# Altium schematic symbol library kmilo17pet-LT_PMIC_LT.SchLib: 2252 symbols (part 51 of 124)
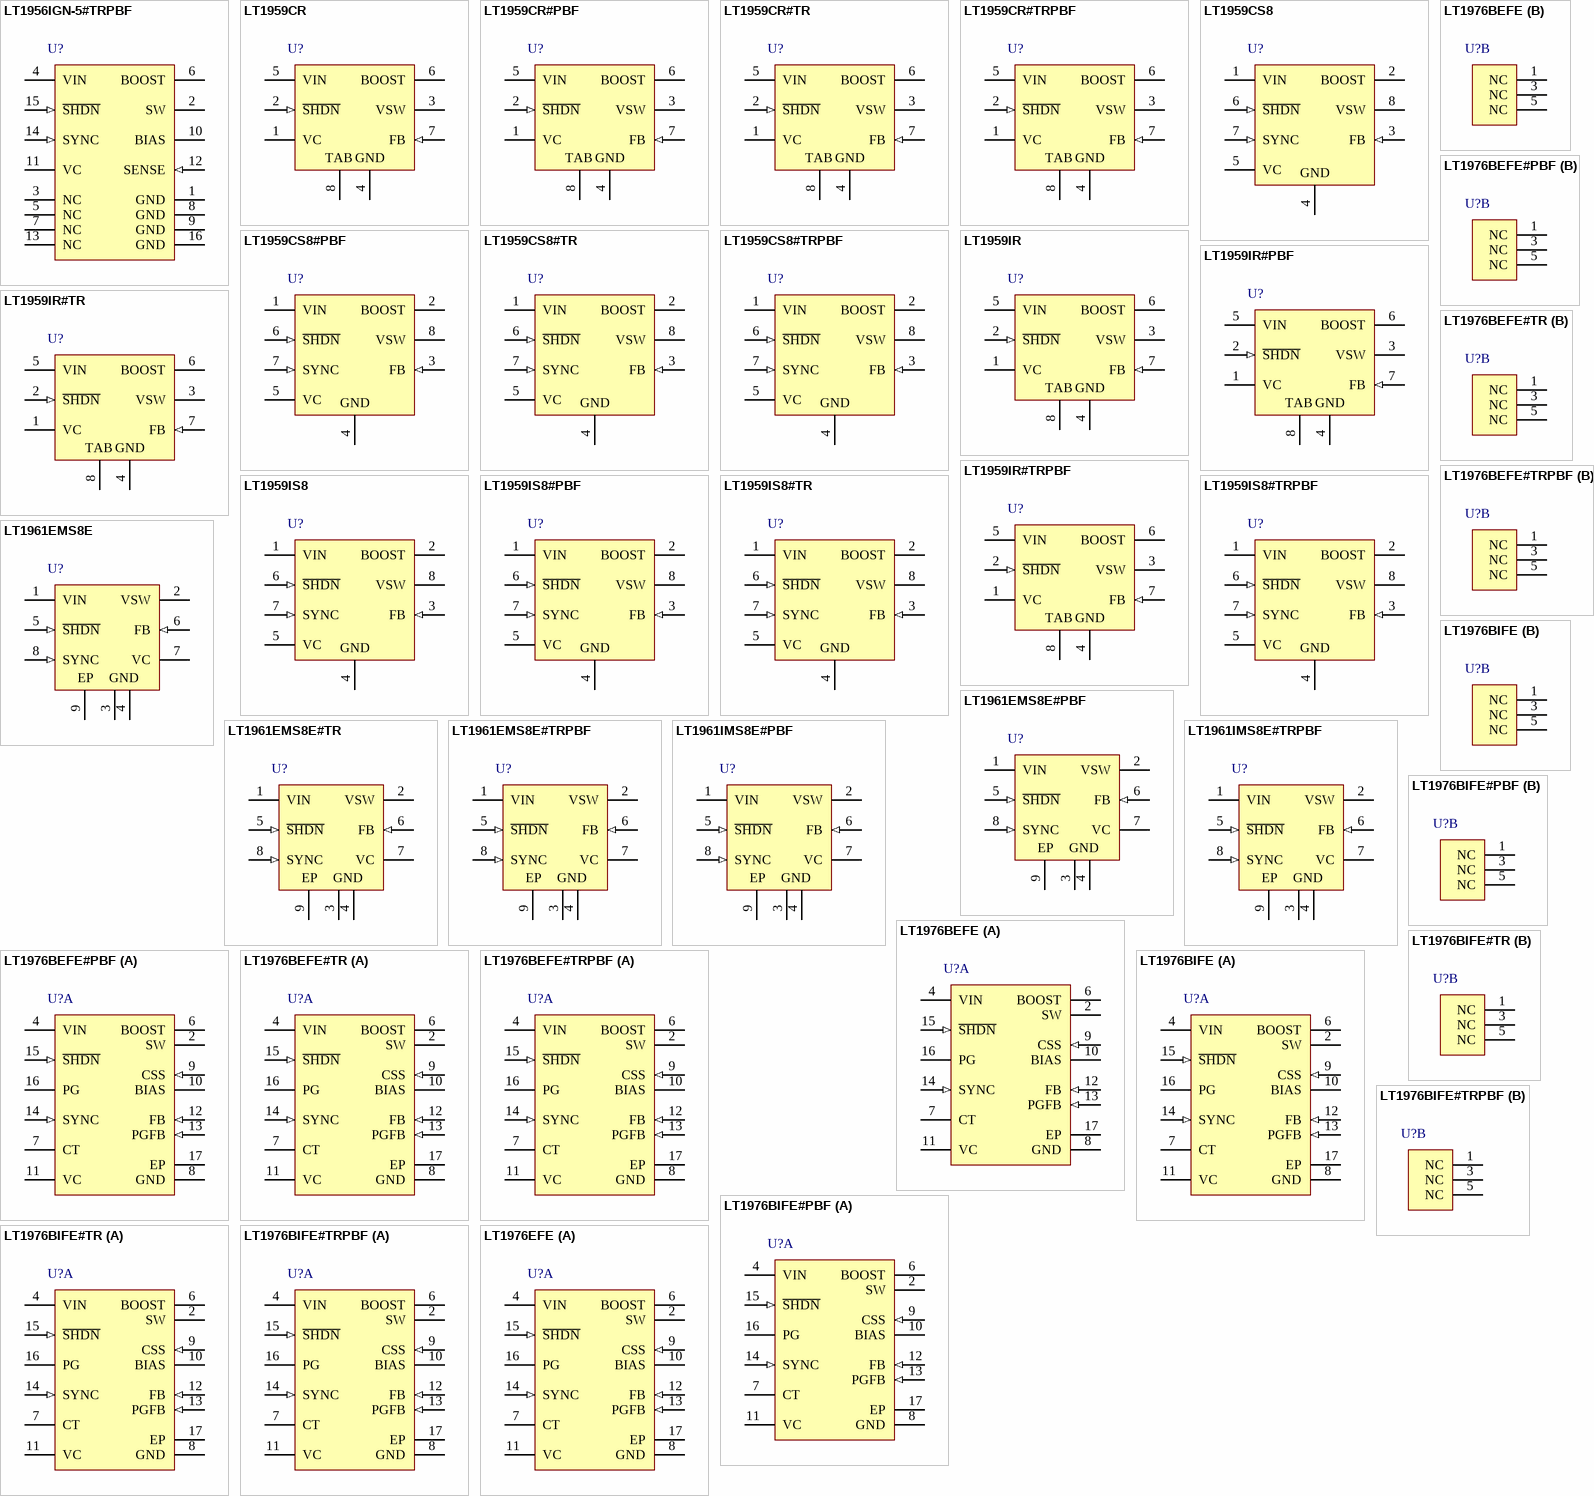
[diagram p121: symbols LT1956IGN-5#TRPBF to LT1976EFE]

## LT1976BIFE#PBF
designator U?
High Voltage 1.5 A, 200 kHz Step-Down Switching Regulator with 100 uA Quiescent Current, 16-pin SOP (FE-16-EPV-BC), -40 to 125 degC, Pb-Free; Manufacturer: Linear Technology; PartNumber: LT1976BIFE#PBF; Number of Outputs: 1; PackageReference: FE-16; PackageDescription: 16-Pin Plastic TSSOP, Body 5 x 4.4 mm, Pitch 0.65 mm; Supplier 1: Digi-Key; Supplier Part Number 1: LT1976BIFE#PBF-ND; RoHS: TRUE
footprint LT-FE-16-EPV-BC_N (SOP, 16-Leads, Body 5.1x4.5mm, Pitch 0.65mm, Thermal Pad 3.58x2.94mm, IPC Medium Density)
footprint LT-FE-16-EPV-BC_L (SOP, 16-Leads, Body 5.1x4.5mm, Pitch 0.65mm, Thermal Pad 3.58x2.94mm, IPC High Density)
footprint LT-FE-16-EPV-BC_M (SOP, 16-Leads, Body 5.1x4.5mm, Pitch 0.65mm, Thermal Pad 3.58x2.94mm, IPC Low Density)
part A pins: 2 SW (power) "The SW pin is the emitter of the on-chip power NPN switch. This pin is driven up to the input pin voltage during switch on time. Inductor current drives the SW pin negative during switch off time. Negative voltage is clamped (See Datasheet)", 4 VIN (power) "This is the collector of the on-chip power NPN switch. VIN powers the internal control circuitry when a voltage on the BIAS pin is not present. High di/dt edges occur on this pin during switch turn on and off. Keep the path (See Datasheet)", 6 BOOST "The BOOST pin is used to provide a drive voltage, higher than the input voltage, to the internal bipolar NPN power switch. Without this added voltage, the typical switch voltage loss would be about 1.5V. The additional BOOST (See Datasheet)", 7 CT "A capacitor on the CT pin determines the amount of delay time between the PGFB pin exceeding its threshold (VPGFB) and the PG pin set to a high impedance state. When the PGFB pin rises above VPGFB, current is sourced from (See Datasheet)", 8 GND (power) "The GND pin connection acts as the reference for the regulated output, so load regulation will suffer if the “ground?end of the load is not at the same voltage as the GND pin of the IC. This condition will occur w(See Datasheet)", 9 CSS (in) "A capacitor from the CSS pin to the regulated output voltage determines the output voltage ramp rate during start-up. When the current through the CSS capacitor exceeds the CSS threshold (ICSS), the voltage ramp of the (See Datasheet)", 10 BIAS (power) "The BIAS pin is used to improve efficiency when operating at higher input voltages and light load current. Connecting this pin to the regulated output voltage forces most of the internal circuitry to draw its operating (See Datasheet)", 11 VC "The VC pin is the output of the error amplifier and the input of the peak switch current comparator. It is normally used for frequency compensation, but can also serve as a current clamp or control loop override. VC sits at (See Datasheet)", 12 FB (in) "The feedback pin is used to determine the output voltage using an external voltage divider from the output that generates 1.25V at the FB pin . When the FB pin drops below 0.9V, switching frequency is reduced, the SYNC (See Datasheet)", 13 PGFB (in) "The PGFB pin is the positive input to a comparator whose negative input is set at VPGFB. When PGFB is taken above VPGFB, current (ICSS) is sourced into the CT pin starting the PG delay period. When the voltage on the PGFB (See Datasheet)", 14 SYNC (in) "The SYNC pin is used to synchronize the internal oscillator to an external signal. It is directly logic compatible and can be driven with any signal between 30% and 70% duty cycle. The synchronizing range is equal to maximum (See Datasheet)", 15 ~{SHDN} (in) "The S\H\D\N\ pin is used to turn off the regulator and to reduce input current to less than 1uA. The S\H\D\N\ pin requires a voltage above 1.3V with a typical source current of 5uA to take the IC out of the shutdown state.", 16 PG (hiz) "The PG pin is functional only when the S\H\D\N\ pin is above its threshold, and is active low when the internal clamp on the CT pin is below its clamp level and high impedance when the clamp is active. The PG pin has a (See Datasheet)", 17 EP (power) "The GND pin connection acts as the reference for the regulated output, so load regulation will suffer if the “ground?end of the load is not at the same voltage as the GND pin of the IC. This condition will occur w(See Datasheet)"
part B pins: 1 NC "No Connection.", 3 NC "No Connection.", 5 NC "No Connection."

## LT1976BIFE#TR
designator U?
High Voltage 1.5 A, 200 kHz Step-Down Switching Regulator with 100 uA Quiescent Current, 16-pin SOP (FE-16-EPV-BC), -40 to 125 degC, Tape and Reel; Manufacturer: Linear Technology; PartNumber: LT1976BIFE#TR; Number of Outputs: 1; PackageReference: FE-16; PackageDescription: 16-Pin Plastic TSSOP, Body 5 x 4.4 mm, Pitch 0.65 mm; RoHS: FALSE
footprint LT-FE-16-EPV-BC_N (SOP, 16-Leads, Body 5.1x4.5mm, Pitch 0.65mm, Thermal Pad 3.58x2.94mm, IPC Medium Density)
footprint LT-FE-16-EPV-BC_L (SOP, 16-Leads, Body 5.1x4.5mm, Pitch 0.65mm, Thermal Pad 3.58x2.94mm, IPC High Density)
footprint LT-FE-16-EPV-BC_M (SOP, 16-Leads, Body 5.1x4.5mm, Pitch 0.65mm, Thermal Pad 3.58x2.94mm, IPC Low Density)
part A pins: 2 SW (power) "The SW pin is the emitter of the on-chip power NPN switch. This pin is driven up to the input pin voltage during switch on time. Inductor current drives the SW pin negative during switch off time. Negative voltage is clamped (See Datasheet)", 4 VIN (power) "This is the collector of the on-chip power NPN switch. VIN powers the internal control circuitry when a voltage on the BIAS pin is not present. High di/dt edges occur on this pin during switch turn on and off. Keep the path (See Datasheet)", 6 BOOST "The BOOST pin is used to provide a drive voltage, higher than the input voltage, to the internal bipolar NPN power switch. Without this added voltage, the typical switch voltage loss would be about 1.5V. The additional BOOST (See Datasheet)", 7 CT "A capacitor on the CT pin determines the amount of delay time between the PGFB pin exceeding its threshold (VPGFB) and the PG pin set to a high impedance state. When the PGFB pin rises above VPGFB, current is sourced from (See Datasheet)", 8 GND (power) "The GND pin connection acts as the reference for the regulated output, so load regulation will suffer if the “ground?end of the load is not at the same voltage as the GND pin of the IC. This condition will occur w(See Datasheet)", 9 CSS (in) "A capacitor from the CSS pin to the regulated output voltage determines the output voltage ramp rate during start-up. When the current through the CSS capacitor exceeds the CSS threshold (ICSS), the voltage ramp of the (See Datasheet)", 10 BIAS (power) "The BIAS pin is used to improve efficiency when operating at higher input voltages and light load current. Connecting this pin to the regulated output voltage forces most of the internal circuitry to draw its operating (See Datasheet)", 11 VC "The VC pin is the output of the error amplifier and the input of the peak switch current comparator. It is normally used for frequency compensation, but can also serve as a current clamp or control loop override. VC sits at (See Datasheet)", 12 FB (in) "The feedback pin is used to determine the output voltage using an external voltage divider from the output that generates 1.25V at the FB pin . When the FB pin drops below 0.9V, switching frequency is reduced, the SYNC (See Datasheet)", 13 PGFB (in) "The PGFB pin is the positive input to a comparator whose negative input is set at VPGFB. When PGFB is taken above VPGFB, current (ICSS) is sourced into the CT pin starting the PG delay period. When the voltage on the PGFB (See Datasheet)", 14 SYNC (in) "The SYNC pin is used to synchronize the internal oscillator to an external signal. It is directly logic compatible and can be driven with any signal between 30% and 70% duty cycle. The synchronizing range is equal to maximum (See Datasheet)", 15 ~{SHDN} (in) "The S\H\D\N\ pin is used to turn off the regulator and to reduce input current to less than 1uA. The S\H\D\N\ pin requires a voltage above 1.3V with a typical source current of 5uA to take the IC out of the shutdown state.", 16 PG (hiz) "The PG pin is functional only when the S\H\D\N\ pin is above its threshold, and is active low when the internal clamp on the CT pin is below its clamp level and high impedance when the clamp is active. The PG pin has a (See Datasheet)", 17 EP (power) "The GND pin connection acts as the reference for the regulated output, so load regulation will suffer if the “ground?end of the load is not at the same voltage as the GND pin of the IC. This condition will occur w(See Datasheet)"
part B pins: 1 NC "No Connection.", 3 NC "No Connection.", 5 NC "No Connection."

## LT1976BIFE#TRPBF
designator U?
High Voltage 1.5 A, 200 kHz Step-Down Switching Regulator with 100 uA Quiescent Current, 16-pin SOP (FE-16-EPV-BC), -40 to 125 degC, Pb-Free, Tape and Reel; Manufacturer: Linear Technology; PartNumber: LT1976BIFE#TRPBF; Number of Outputs: 1; PackageReference: FE-16; PackageDescription: 16-Pin Plastic TSSOP, Body 5 x 4.4 mm, Pitch 0.65 mm; Supplier 1: Digi-Key; Supplier Part Number 1: LT1976BIFE#TRPBF-ND; RoHS: TRUE
footprint LT-FE-16-EPV-BC_N (SOP, 16-Leads, Body 5.1x4.5mm, Pitch 0.65mm, Thermal Pad 3.58x2.94mm, IPC Medium Density)
footprint LT-FE-16-EPV-BC_L (SOP, 16-Leads, Body 5.1x4.5mm, Pitch 0.65mm, Thermal Pad 3.58x2.94mm, IPC High Density)
footprint LT-FE-16-EPV-BC_M (SOP, 16-Leads, Body 5.1x4.5mm, Pitch 0.65mm, Thermal Pad 3.58x2.94mm, IPC Low Density)
part A pins: 2 SW (power) "The SW pin is the emitter of the on-chip power NPN switch. This pin is driven up to the input pin voltage during switch on time. Inductor current drives the SW pin negative during switch off time. Negative voltage is clamped (See Datasheet)", 4 VIN (power) "This is the collector of the on-chip power NPN switch. VIN powers the internal control circuitry when a voltage on the BIAS pin is not present. High di/dt edges occur on this pin during switch turn on and off. Keep the path (See Datasheet)", 6 BOOST "The BOOST pin is used to provide a drive voltage, higher than the input voltage, to the internal bipolar NPN power switch. Without this added voltage, the typical switch voltage loss would be about 1.5V. The additional BOOST (See Datasheet)", 7 CT "A capacitor on the CT pin determines the amount of delay time between the PGFB pin exceeding its threshold (VPGFB) and the PG pin set to a high impedance state. When the PGFB pin rises above VPGFB, current is sourced from (See Datasheet)", 8 GND (power) "The GND pin connection acts as the reference for the regulated output, so load regulation will suffer if the “ground?end of the load is not at the same voltage as the GND pin of the IC. This condition will occur w(See Datasheet)", 9 CSS (in) "A capacitor from the CSS pin to the regulated output voltage determines the output voltage ramp rate during start-up. When the current through the CSS capacitor exceeds the CSS threshold (ICSS), the voltage ramp of the (See Datasheet)", 10 BIAS (power) "The BIAS pin is used to improve efficiency when operating at higher input voltages and light load current. Connecting this pin to the regulated output voltage forces most of the internal circuitry to draw its operating (See Datasheet)", 11 VC "The VC pin is the output of the error amplifier and the input of the peak switch current comparator. It is normally used for frequency compensation, but can also serve as a current clamp or control loop override. VC sits at (See Datasheet)", 12 FB (in) "The feedback pin is used to determine the output voltage using an external voltage divider from the output that generates 1.25V at the FB pin . When the FB pin drops below 0.9V, switching frequency is reduced, the SYNC (See Datasheet)", 13 PGFB (in) "The PGFB pin is the positive input to a comparator whose negative input is set at VPGFB. When PGFB is taken above VPGFB, current (ICSS) is sourced into the CT pin starting the PG delay period. When the voltage on the PGFB (See Datasheet)", 14 SYNC (in) "The SYNC pin is used to synchronize the internal oscillator to an external signal. It is directly logic compatible and can be driven with any signal between 30% and 70% duty cycle. The synchronizing range is equal to maximum (See Datasheet)", 15 ~{SHDN} (in) "The S\H\D\N\ pin is used to turn off the regulator and to reduce input current to less than 1uA. The S\H\D\N\ pin requires a voltage above 1.3V with a typical source current of 5uA to take the IC out of the shutdown state.", 16 PG (hiz) "The PG pin is functional only when the S\H\D\N\ pin is above its threshold, and is active low when the internal clamp on the CT pin is below its clamp level and high impedance when the clamp is active. The PG pin has a (See Datasheet)", 17 EP (power) "The GND pin connection acts as the reference for the regulated output, so load regulation will suffer if the “ground?end of the load is not at the same voltage as the GND pin of the IC. This condition will occur w(See Datasheet)"
part B pins: 1 NC "No Connection.", 3 NC "No Connection.", 5 NC "No Connection."

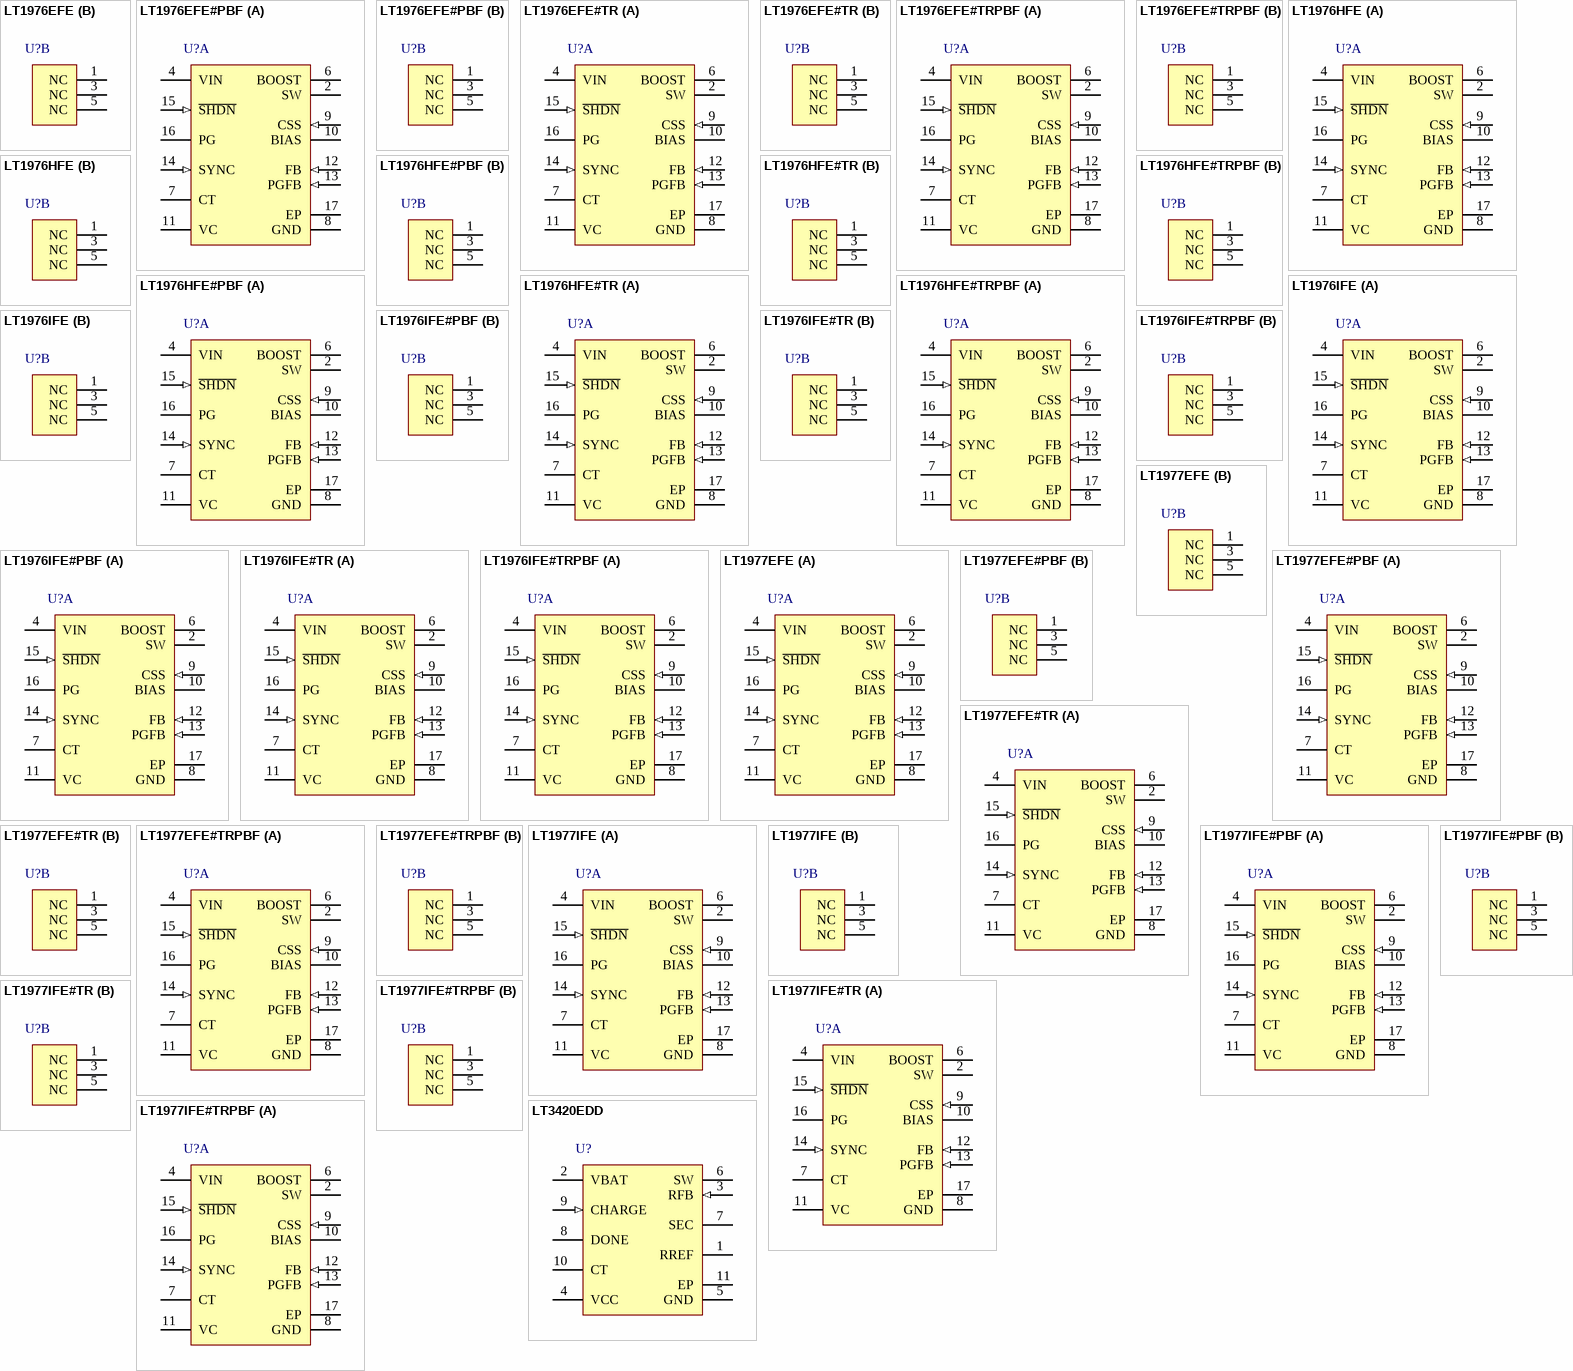
[diagram p31: symbols LT1976EFE to LT3420EDD]

## LT1976EFE
designator U?
High Voltage 1.5 A, 200 kHz Step-Down Switching Regulator with 100 uA Quiescent Current, 16-pin SOP (FE-16-EPV-BC), -40 to 125 degC; Manufacturer: Linear Technology; PartNumber: LT1976EFE; Number of Outputs: 1; PackageReference: FE-16; PackageDescription: 16-Pin Plastic TSSOP, Body 5 x 4.4 mm, Pitch 0.65 mm; Supplier 1: Digi-Key; Supplier Part Number 1: LT1976EFE-ND; RoHS: FALSE
footprint LT-FE-16-EPV-BC_N (SOP, 16-Leads, Body 5.1x4.5mm, Pitch 0.65mm, Thermal Pad 3.58x2.94mm, IPC Medium Density)
footprint LT-FE-16-EPV-BC_L (SOP, 16-Leads, Body 5.1x4.5mm, Pitch 0.65mm, Thermal Pad 3.58x2.94mm, IPC High Density)
footprint LT-FE-16-EPV-BC_M (SOP, 16-Leads, Body 5.1x4.5mm, Pitch 0.65mm, Thermal Pad 3.58x2.94mm, IPC Low Density)
part A pins: 2 SW (power) "The SW pin is the emitter of the on-chip power NPN switch. This pin is driven up to the input pin voltage during switch on time. Inductor current drives the SW pin negative during switch off time. Negative voltage is clamped (See Datasheet)", 4 VIN (power) "This is the collector of the on-chip power NPN switch. VIN powers the internal control circuitry when a voltage on the BIAS pin is not present. High di/dt edges occur on this pin during switch turn on and off. Keep the path (See Datasheet)", 6 BOOST "The BOOST pin is used to provide a drive voltage, higher than the input voltage, to the internal bipolar NPN power switch. Without this added voltage, the typical switch voltage loss would be about 1.5V. The additional BOOST (See Datasheet)", 7 CT "A capacitor on the CT pin determines the amount of delay time between the PGFB pin exceeding its threshold (VPGFB) and the PG pin set to a high impedance state. When the PGFB pin rises above VPGFB, current is sourced from (See Datasheet)", 8 GND (power) "The GND pin connection acts as the reference for the regulated output, so load regulation will suffer if the “ground?end of the load is not at the same voltage as the GND pin of the IC. This condition will occur w(See Datasheet)", 9 CSS (in) "A capacitor from the CSS pin to the regulated output voltage determines the output voltage ramp rate during start-up. When the current through the CSS capacitor exceeds the CSS threshold (ICSS), the voltage ramp of the (See Datasheet)", 10 BIAS (power) "The BIAS pin is used to improve efficiency when operating at higher input voltages and light load current. Connecting this pin to the regulated output voltage forces most of the internal circuitry to draw its operating (See Datasheet)", 11 VC "The VC pin is the output of the error amplifier and the input of the peak switch current comparator. It is normally used for frequency compensation, but can also serve as a current clamp or control loop override. VC sits at (See Datasheet)", 12 FB (in) "The feedback pin is used to determine the output voltage using an external voltage divider from the output that generates 1.25V at the FB pin . When the FB pin drops below 0.9V, switching frequency is reduced, the SYNC (See Datasheet)", 13 PGFB (in) "The PGFB pin is the positive input to a comparator whose negative input is set at VPGFB. When PGFB is taken above VPGFB, current (ICSS) is sourced into the CT pin starting the PG delay period. When the voltage on the PGFB (See Datasheet)", 14 SYNC (in) "The SYNC pin is used to synchronize the internal oscillator to an external signal. It is directly logic compatible and can be driven with any signal between 30% and 70% duty cycle. The synchronizing range is equal to maximum (See Datasheet)", 15 ~{SHDN} (in) "The S\H\D\N\ pin is used to turn off the regulator and to reduce input current to less than 1uA. The S\H\D\N\ pin requires a voltage above 1.3V with a typical source current of 5uA to take the IC out of the shutdown state.", 16 PG (hiz) "The PG pin is functional only when the S\H\D\N\ pin is above its threshold, and is active low when the internal clamp on the CT pin is below its clamp level and high impedance when the clamp is active. The PG pin has a (See Datasheet)", 17 EP (power) "The GND pin connection acts as the reference for the regulated output, so load regulation will suffer if the “ground?end of the load is not at the same voltage as the GND pin of the IC. This condition will occur w(See Datasheet)"
part B pins: 1 NC "No Connection.", 3 NC "No Connection.", 5 NC "No Connection."

## LT1976EFE#PBF
designator U?
High Voltage 1.5 A, 200 kHz Step-Down Switching Regulator with 100 uA Quiescent Current, 16-pin SOP (FE-16-EPV-BC), -40 to 125 degC, Pb-Free; Manufacturer: Linear Technology; PartNumber: LT1976EFE#PBF; Number of Outputs: 1; PackageReference: FE-16; PackageDescription: 16-Pin Plastic TSSOP, Body 5 x 4.4 mm, Pitch 0.65 mm; Supplier 1: Digi-Key; Supplier Part Number 1: LT1976EFE#PBF-ND; RoHS: TRUE
footprint LT-FE-16-EPV-BC_N (SOP, 16-Leads, Body 5.1x4.5mm, Pitch 0.65mm, Thermal Pad 3.58x2.94mm, IPC Medium Density)
footprint LT-FE-16-EPV-BC_L (SOP, 16-Leads, Body 5.1x4.5mm, Pitch 0.65mm, Thermal Pad 3.58x2.94mm, IPC High Density)
footprint LT-FE-16-EPV-BC_M (SOP, 16-Leads, Body 5.1x4.5mm, Pitch 0.65mm, Thermal Pad 3.58x2.94mm, IPC Low Density)
part A pins: 2 SW (power) "The SW pin is the emitter of the on-chip power NPN switch. This pin is driven up to the input pin voltage during switch on time. Inductor current drives the SW pin negative during switch off time. Negative voltage is clamped (See Datasheet)", 4 VIN (power) "This is the collector of the on-chip power NPN switch. VIN powers the internal control circuitry when a voltage on the BIAS pin is not present. High di/dt edges occur on this pin during switch turn on and off. Keep the path (See Datasheet)", 6 BOOST "The BOOST pin is used to provide a drive voltage, higher than the input voltage, to the internal bipolar NPN power switch. Without this added voltage, the typical switch voltage loss would be about 1.5V. The additional BOOST (See Datasheet)", 7 CT "A capacitor on the CT pin determines the amount of delay time between the PGFB pin exceeding its threshold (VPGFB) and the PG pin set to a high impedance state. When the PGFB pin rises above VPGFB, current is sourced from (See Datasheet)", 8 GND (power) "The GND pin connection acts as the reference for the regulated output, so load regulation will suffer if the “ground?end of the load is not at the same voltage as the GND pin of the IC. This condition will occur w(See Datasheet)", 9 CSS (in) "A capacitor from the CSS pin to the regulated output voltage determines the output voltage ramp rate during start-up. When the current through the CSS capacitor exceeds the CSS threshold (ICSS), the voltage ramp of the (See Datasheet)", 10 BIAS (power) "The BIAS pin is used to improve efficiency when operating at higher input voltages and light load current. Connecting this pin to the regulated output voltage forces most of the internal circuitry to draw its operating (See Datasheet)", 11 VC "The VC pin is the output of the error amplifier and the input of the peak switch current comparator. It is normally used for frequency compensation, but can also serve as a current clamp or control loop override. VC sits at (See Datasheet)", 12 FB (in) "The feedback pin is used to determine the output voltage using an external voltage divider from the output that generates 1.25V at the FB pin . When the FB pin drops below 0.9V, switching frequency is reduced, the SYNC (See Datasheet)", 13 PGFB (in) "The PGFB pin is the positive input to a comparator whose negative input is set at VPGFB. When PGFB is taken above VPGFB, current (ICSS) is sourced into the CT pin starting the PG delay period. When the voltage on the PGFB (See Datasheet)", 14 SYNC (in) "The SYNC pin is used to synchronize the internal oscillator to an external signal. It is directly logic compatible and can be driven with any signal between 30% and 70% duty cycle. The synchronizing range is equal to maximum (See Datasheet)", 15 ~{SHDN} (in) "The S\H\D\N\ pin is used to turn off the regulator and to reduce input current to less than 1uA. The S\H\D\N\ pin requires a voltage above 1.3V with a typical source current of 5uA to take the IC out of the shutdown state.", 16 PG (hiz) "The PG pin is functional only when the S\H\D\N\ pin is above its threshold, and is active low when the internal clamp on the CT pin is below its clamp level and high impedance when the clamp is active. The PG pin has a (See Datasheet)", 17 EP (power) "The GND pin connection acts as the reference for the regulated output, so load regulation will suffer if the “ground?end of the load is not at the same voltage as the GND pin of the IC. This condition will occur w(See Datasheet)"
part B pins: 1 NC "No Connection.", 3 NC "No Connection.", 5 NC "No Connection."

## LT1976EFE#TR
designator U?
High Voltage 1.5 A, 200 kHz Step-Down Switching Regulator with 100 uA Quiescent Current, 16-pin SOP (FE-16-EPV-BC), -40 to 125 degC, Tape and Reel; Manufacturer: Linear Technology; PartNumber: LT1976EFE#TR; Number of Outputs: 1; PackageReference: FE-16; PackageDescription: 16-Pin Plastic TSSOP, Body 5 x 4.4 mm, Pitch 0.65 mm; Supplier 1: Digi-Key; Supplier Part Number 1: LT1976EFE#TR-ND; RoHS: FALSE
footprint LT-FE-16-EPV-BC_N (SOP, 16-Leads, Body 5.1x4.5mm, Pitch 0.65mm, Thermal Pad 3.58x2.94mm, IPC Medium Density)
footprint LT-FE-16-EPV-BC_L (SOP, 16-Leads, Body 5.1x4.5mm, Pitch 0.65mm, Thermal Pad 3.58x2.94mm, IPC High Density)
footprint LT-FE-16-EPV-BC_M (SOP, 16-Leads, Body 5.1x4.5mm, Pitch 0.65mm, Thermal Pad 3.58x2.94mm, IPC Low Density)
part A pins: 2 SW (power) "The SW pin is the emitter of the on-chip power NPN switch. This pin is driven up to the input pin voltage during switch on time. Inductor current drives the SW pin negative during switch off time. Negative voltage is clamped (See Datasheet)", 4 VIN (power) "This is the collector of the on-chip power NPN switch. VIN powers the internal control circuitry when a voltage on the BIAS pin is not present. High di/dt edges occur on this pin during switch turn on and off. Keep the path (See Datasheet)", 6 BOOST "The BOOST pin is used to provide a drive voltage, higher than the input voltage, to the internal bipolar NPN power switch. Without this added voltage, the typical switch voltage loss would be about 1.5V. The additional BOOST (See Datasheet)", 7 CT "A capacitor on the CT pin determines the amount of delay time between the PGFB pin exceeding its threshold (VPGFB) and the PG pin set to a high impedance state. When the PGFB pin rises above VPGFB, current is sourced from (See Datasheet)", 8 GND (power) "The GND pin connection acts as the reference for the regulated output, so load regulation will suffer if the “ground?end of the load is not at the same voltage as the GND pin of the IC. This condition will occur w(See Datasheet)", 9 CSS (in) "A capacitor from the CSS pin to the regulated output voltage determines the output voltage ramp rate during start-up. When the current through the CSS capacitor exceeds the CSS threshold (ICSS), the voltage ramp of the (See Datasheet)", 10 BIAS (power) "The BIAS pin is used to improve efficiency when operating at higher input voltages and light load current. Connecting this pin to the regulated output voltage forces most of the internal circuitry to draw its operating (See Datasheet)", 11 VC "The VC pin is the output of the error amplifier and the input of the peak switch current comparator. It is normally used for frequency compensation, but can also serve as a current clamp or control loop override. VC sits at (See Datasheet)", 12 FB (in) "The feedback pin is used to determine the output voltage using an external voltage divider from the output that generates 1.25V at the FB pin . When the FB pin drops below 0.9V, switching frequency is reduced, the SYNC (See Datasheet)", 13 PGFB (in) "The PGFB pin is the positive input to a comparator whose negative input is set at VPGFB. When PGFB is taken above VPGFB, current (ICSS) is sourced into the CT pin starting the PG delay period. When the voltage on the PGFB (See Datasheet)", 14 SYNC (in) "The SYNC pin is used to synchronize the internal oscillator to an external signal. It is directly logic compatible and can be driven with any signal between 30% and 70% duty cycle. The synchronizing range is equal to maximum (See Datasheet)", 15 ~{SHDN} (in) "The S\H\D\N\ pin is used to turn off the regulator and to reduce input current to less than 1uA. The S\H\D\N\ pin requires a voltage above 1.3V with a typical source current of 5uA to take the IC out of the shutdown state.", 16 PG (hiz) "The PG pin is functional only when the S\H\D\N\ pin is above its threshold, and is active low when the internal clamp on the CT pin is below its clamp level and high impedance when the clamp is active. The PG pin has a (See Datasheet)", 17 EP (power) "The GND pin connection acts as the reference for the regulated output, so load regulation will suffer if the “ground?end of the load is not at the same voltage as the GND pin of the IC. This condition will occur w(See Datasheet)"
part B pins: 1 NC "No Connection.", 3 NC "No Connection.", 5 NC "No Connection."

## LT1976EFE#TRPBF
designator U?
High Voltage 1.5 A, 200 kHz Step-Down Switching Regulator with 100 uA Quiescent Current, 16-pin SOP (FE-16-EPV-BC), -40 to 125 degC, Pb-Free, Tape and Reel; Manufacturer: Linear Technology; PartNumber: LT1976EFE#TRPBF; Number of Outputs: 1; PackageReference: FE-16; PackageDescription: 16-Pin Plastic TSSOP, Body 5 x 4.4 mm, Pitch 0.65 mm; Supplier 1: Digi-Key; Supplier Part Number 1: LT1976EFE#TRPBF-ND; RoHS: TRUE
footprint LT-FE-16-EPV-BC_N (SOP, 16-Leads, Body 5.1x4.5mm, Pitch 0.65mm, Thermal Pad 3.58x2.94mm, IPC Medium Density)
footprint LT-FE-16-EPV-BC_L (SOP, 16-Leads, Body 5.1x4.5mm, Pitch 0.65mm, Thermal Pad 3.58x2.94mm, IPC High Density)
footprint LT-FE-16-EPV-BC_M (SOP, 16-Leads, Body 5.1x4.5mm, Pitch 0.65mm, Thermal Pad 3.58x2.94mm, IPC Low Density)
part A pins: 2 SW (power) "The SW pin is the emitter of the on-chip power NPN switch. This pin is driven up to the input pin voltage during switch on time. Inductor current drives the SW pin negative during switch off time. Negative voltage is clamped (See Datasheet)", 4 VIN (power) "This is the collector of the on-chip power NPN switch. VIN powers the internal control circuitry when a voltage on the BIAS pin is not present. High di/dt edges occur on this pin during switch turn on and off. Keep the path (See Datasheet)", 6 BOOST "The BOOST pin is used to provide a drive voltage, higher than the input voltage, to the internal bipolar NPN power switch. Without this added voltage, the typical switch voltage loss would be about 1.5V. The additional BOOST (See Datasheet)", 7 CT "A capacitor on the CT pin determines the amount of delay time between the PGFB pin exceeding its threshold (VPGFB) and the PG pin set to a high impedance state. When the PGFB pin rises above VPGFB, current is sourced from (See Datasheet)", 8 GND (power) "The GND pin connection acts as the reference for the regulated output, so load regulation will suffer if the “ground?end of the load is not at the same voltage as the GND pin of the IC. This condition will occur w(See Datasheet)", 9 CSS (in) "A capacitor from the CSS pin to the regulated output voltage determines the output voltage ramp rate during start-up. When the current through the CSS capacitor exceeds the CSS threshold (ICSS), the voltage ramp of the (See Datasheet)", 10 BIAS (power) "The BIAS pin is used to improve efficiency when operating at higher input voltages and light load current. Connecting this pin to the regulated output voltage forces most of the internal circuitry to draw its operating (See Datasheet)", 11 VC "The VC pin is the output of the error amplifier and the input of the peak switch current comparator. It is normally used for frequency compensation, but can also serve as a current clamp or control loop override. VC sits at (See Datasheet)", 12 FB (in) "The feedback pin is used to determine the output voltage using an external voltage divider from the output that generates 1.25V at the FB pin . When the FB pin drops below 0.9V, switching frequency is reduced, the SYNC (See Datasheet)", 13 PGFB (in) "The PGFB pin is the positive input to a comparator whose negative input is set at VPGFB. When PGFB is taken above VPGFB, current (ICSS) is sourced into the CT pin starting the PG delay period. When the voltage on the PGFB (See Datasheet)", 14 SYNC (in) "The SYNC pin is used to synchronize the internal oscillator to an external signal. It is directly logic compatible and can be driven with any signal between 30% and 70% duty cycle. The synchronizing range is equal to maximum (See Datasheet)", 15 ~{SHDN} (in) "The S\H\D\N\ pin is used to turn off the regulator and to reduce input current to less than 1uA. The S\H\D\N\ pin requires a voltage above 1.3V with a typical source current of 5uA to take the IC out of the shutdown state.", 16 PG (hiz) "The PG pin is functional only when the S\H\D\N\ pin is above its threshold, and is active low when the internal clamp on the CT pin is below its clamp level and high impedance when the clamp is active. The PG pin has a (See Datasheet)", 17 EP (power) "The GND pin connection acts as the reference for the regulated output, so load regulation will suffer if the “ground?end of the load is not at the same voltage as the GND pin of the IC. This condition will occur w(See Datasheet)"
part B pins: 1 NC "No Connection.", 3 NC "No Connection.", 5 NC "No Connection."

## LT1976HFE
designator U?
High Voltage 1.5 A, 200 kHz Step-Down Switching Regulator with 100 uA Quiescent Current, 16-pin SOP (FE-16-EPV-BC), -40 to 140 degC; Manufacturer: Linear Technology; PartNumber: LT1976HFE; Number of Outputs: 1; PackageReference: FE-16; PackageDescription: 16-Pin Plastic TSSOP, Body 5 x 4.4 mm, Pitch 0.65 mm; RoHS: FALSE
footprint LT-FE-16-EPV-BC_N (SOP, 16-Leads, Body 5.1x4.5mm, Pitch 0.65mm, Thermal Pad 3.58x2.94mm, IPC Medium Density)
footprint LT-FE-16-EPV-BC_L (SOP, 16-Leads, Body 5.1x4.5mm, Pitch 0.65mm, Thermal Pad 3.58x2.94mm, IPC High Density)
footprint LT-FE-16-EPV-BC_M (SOP, 16-Leads, Body 5.1x4.5mm, Pitch 0.65mm, Thermal Pad 3.58x2.94mm, IPC Low Density)
part A pins: 2 SW (power) "The SW pin is the emitter of the on-chip power NPN switch. This pin is driven up to the input pin voltage during switch on time. Inductor current drives the SW pin negative during switch off time. Negative voltage is clamped (See Datasheet)", 4 VIN (power) "This is the collector of the on-chip power NPN switch. VIN powers the internal control circuitry when a voltage on the BIAS pin is not present. High di/dt edges occur on this pin during switch turn on and off. Keep the path (See Datasheet)", 6 BOOST "The BOOST pin is used to provide a drive voltage, higher than the input voltage, to the internal bipolar NPN power switch. Without this added voltage, the typical switch voltage loss would be about 1.5V. The additional BOOST (See Datasheet)", 7 CT "A capacitor on the CT pin determines the amount of delay time between the PGFB pin exceeding its threshold (VPGFB) and the PG pin set to a high impedance state. When the PGFB pin rises above VPGFB, current is sourced from (See Datasheet)", 8 GND (power) "The GND pin connection acts as the reference for the regulated output, so load regulation will suffer if the “ground?end of the load is not at the same voltage as the GND pin of the IC. This condition will occur w(See Datasheet)", 9 CSS (in) "A capacitor from the CSS pin to the regulated output voltage determines the output voltage ramp rate during start-up. When the current through the CSS capacitor exceeds the CSS threshold (ICSS), the voltage ramp of the (See Datasheet)", 10 BIAS (power) "The BIAS pin is used to improve efficiency when operating at higher input voltages and light load current. Connecting this pin to the regulated output voltage forces most of the internal circuitry to draw its operating (See Datasheet)", 11 VC "The VC pin is the output of the error amplifier and the input of the peak switch current comparator. It is normally used for frequency compensation, but can also serve as a current clamp or control loop override. VC sits at (See Datasheet)", 12 FB (in) "The feedback pin is used to determine the output voltage using an external voltage divider from the output that generates 1.25V at the FB pin . When the FB pin drops below 0.9V, switching frequency is reduced, the SYNC (See Datasheet)", 13 PGFB (in) "The PGFB pin is the positive input to a comparator whose negative input is set at VPGFB. When PGFB is taken above VPGFB, current (ICSS) is sourced into the CT pin starting the PG delay period. When the voltage on the PGFB (See Datasheet)", 14 SYNC (in) "The SYNC pin is used to synchronize the internal oscillator to an external signal. It is directly logic compatible and can be driven with any signal between 30% and 70% duty cycle. The synchronizing range is equal to maximum (See Datasheet)", 15 ~{SHDN} (in) "The S\H\D\N\ pin is used to turn off the regulator and to reduce input current to less than 1uA. The S\H\D\N\ pin requires a voltage above 1.3V with a typical source current of 5uA to take the IC out of the shutdown state.", 16 PG (hiz) "The PG pin is functional only when the S\H\D\N\ pin is above its threshold, and is active low when the internal clamp on the CT pin is below its clamp level and high impedance when the clamp is active. The PG pin has a (See Datasheet)", 17 EP (power) "The GND pin connection acts as the reference for the regulated output, so load regulation will suffer if the “ground?end of the load is not at the same voltage as the GND pin of the IC. This condition will occur w(See Datasheet)"
part B pins: 1 NC "No Connection.", 3 NC "No Connection.", 5 NC "No Connection."

## LT1976HFE#PBF
designator U?
High Voltage 1.5 A, 200 kHz Step-Down Switching Regulator with 100 uA Quiescent Current, 16-pin SOP (FE-16-EPV-BC), -40 to 140 degC, Pb-Free; Manufacturer: Linear Technology; PartNumber: LT1976HFE#PBF; Number of Outputs: 1; PackageReference: FE-16; PackageDescription: 16-Pin Plastic TSSOP, Body 5 x 4.4 mm, Pitch 0.65 mm; Supplier 1: Digi-Key; Supplier Part Number 1: LT1976HFE#PBF-ND; RoHS: TRUE
footprint LT-FE-16-EPV-BC_N (SOP, 16-Leads, Body 5.1x4.5mm, Pitch 0.65mm, Thermal Pad 3.58x2.94mm, IPC Medium Density)
footprint LT-FE-16-EPV-BC_L (SOP, 16-Leads, Body 5.1x4.5mm, Pitch 0.65mm, Thermal Pad 3.58x2.94mm, IPC High Density)
footprint LT-FE-16-EPV-BC_M (SOP, 16-Leads, Body 5.1x4.5mm, Pitch 0.65mm, Thermal Pad 3.58x2.94mm, IPC Low Density)
part A pins: 2 SW (power) "The SW pin is the emitter of the on-chip power NPN switch. This pin is driven up to the input pin voltage during switch on time. Inductor current drives the SW pin negative during switch off time. Negative voltage is clamped (See Datasheet)", 4 VIN (power) "This is the collector of the on-chip power NPN switch. VIN powers the internal control circuitry when a voltage on the BIAS pin is not present. High di/dt edges occur on this pin during switch turn on and off. Keep the path (See Datasheet)", 6 BOOST "The BOOST pin is used to provide a drive voltage, higher than the input voltage, to the internal bipolar NPN power switch. Without this added voltage, the typical switch voltage loss would be about 1.5V. The additional BOOST (See Datasheet)", 7 CT "A capacitor on the CT pin determines the amount of delay time between the PGFB pin exceeding its threshold (VPGFB) and the PG pin set to a high impedance state. When the PGFB pin rises above VPGFB, current is sourced from (See Datasheet)", 8 GND (power) "The GND pin connection acts as the reference for the regulated output, so load regulation will suffer if the “ground?end of the load is not at the same voltage as the GND pin of the IC. This condition will occur w(See Datasheet)", 9 CSS (in) "A capacitor from the CSS pin to the regulated output voltage determines the output voltage ramp rate during start-up. When the current through the CSS capacitor exceeds the CSS threshold (ICSS), the voltage ramp of the (See Datasheet)", 10 BIAS (power) "The BIAS pin is used to improve efficiency when operating at higher input voltages and light load current. Connecting this pin to the regulated output voltage forces most of the internal circuitry to draw its operating (See Datasheet)", 11 VC "The VC pin is the output of the error amplifier and the input of the peak switch current comparator. It is normally used for frequency compensation, but can also serve as a current clamp or control loop override. VC sits at (See Datasheet)", 12 FB (in) "The feedback pin is used to determine the output voltage using an external voltage divider from the output that generates 1.25V at the FB pin . When the FB pin drops below 0.9V, switching frequency is reduced, the SYNC (See Datasheet)", 13 PGFB (in) "The PGFB pin is the positive input to a comparator whose negative input is set at VPGFB. When PGFB is taken above VPGFB, current (ICSS) is sourced into the CT pin starting the PG delay period. When the voltage on the PGFB (See Datasheet)", 14 SYNC (in) "The SYNC pin is used to synchronize the internal oscillator to an external signal. It is directly logic compatible and can be driven with any signal between 30% and 70% duty cycle. The synchronizing range is equal to maximum (See Datasheet)", 15 ~{SHDN} (in) "The S\H\D\N\ pin is used to turn off the regulator and to reduce input current to less than 1uA. The S\H\D\N\ pin requires a voltage above 1.3V with a typical source current of 5uA to take the IC out of the shutdown state.", 16 PG (hiz) "The PG pin is functional only when the S\H\D\N\ pin is above its threshold, and is active low when the internal clamp on the CT pin is below its clamp level and high impedance when the clamp is active. The PG pin has a (See Datasheet)", 17 EP (power) "The GND pin connection acts as the reference for the regulated output, so load regulation will suffer if the “ground?end of the load is not at the same voltage as the GND pin of the IC. This condition will occur w(See Datasheet)"
part B pins: 1 NC "No Connection.", 3 NC "No Connection.", 5 NC "No Connection."

## LT1976HFE#TR
designator U?
High Voltage 1.5 A, 200 kHz Step-Down Switching Regulator with 100 uA Quiescent Current, 16-pin SOP (FE-16-EPV-BC), -40 to 140 degC, Tape and Reel; Manufacturer: Linear Technology; PartNumber: LT1976HFE#TR; Number of Outputs: 1; PackageReference: FE-16; PackageDescription: 16-Pin Plastic TSSOP, Body 5 x 4.4 mm, Pitch 0.65 mm; RoHS: FALSE
footprint LT-FE-16-EPV-BC_N (SOP, 16-Leads, Body 5.1x4.5mm, Pitch 0.65mm, Thermal Pad 3.58x2.94mm, IPC Medium Density)
footprint LT-FE-16-EPV-BC_L (SOP, 16-Leads, Body 5.1x4.5mm, Pitch 0.65mm, Thermal Pad 3.58x2.94mm, IPC High Density)
footprint LT-FE-16-EPV-BC_M (SOP, 16-Leads, Body 5.1x4.5mm, Pitch 0.65mm, Thermal Pad 3.58x2.94mm, IPC Low Density)
part A pins: 2 SW (power) "The SW pin is the emitter of the on-chip power NPN switch. This pin is driven up to the input pin voltage during switch on time. Inductor current drives the SW pin negative during switch off time. Negative voltage is clamped (See Datasheet)", 4 VIN (power) "This is the collector of the on-chip power NPN switch. VIN powers the internal control circuitry when a voltage on the BIAS pin is not present. High di/dt edges occur on this pin during switch turn on and off. Keep the path (See Datasheet)", 6 BOOST "The BOOST pin is used to provide a drive voltage, higher than the input voltage, to the internal bipolar NPN power switch. Without this added voltage, the typical switch voltage loss would be about 1.5V. The additional BOOST (See Datasheet)", 7 CT "A capacitor on the CT pin determines the amount of delay time between the PGFB pin exceeding its threshold (VPGFB) and the PG pin set to a high impedance state. When the PGFB pin rises above VPGFB, current is sourced from (See Datasheet)", 8 GND (power) "The GND pin connection acts as the reference for the regulated output, so load regulation will suffer if the “ground?end of the load is not at the same voltage as the GND pin of the IC. This condition will occur w(See Datasheet)", 9 CSS (in) "A capacitor from the CSS pin to the regulated output voltage determines the output voltage ramp rate during start-up. When the current through the CSS capacitor exceeds the CSS threshold (ICSS), the voltage ramp of the (See Datasheet)", 10 BIAS (power) "The BIAS pin is used to improve efficiency when operating at higher input voltages and light load current. Connecting this pin to the regulated output voltage forces most of the internal circuitry to draw its operating (See Datasheet)", 11 VC "The VC pin is the output of the error amplifier and the input of the peak switch current comparator. It is normally used for frequency compensation, but can also serve as a current clamp or control loop override. VC sits at (See Datasheet)", 12 FB (in) "The feedback pin is used to determine the output voltage using an external voltage divider from the output that generates 1.25V at the FB pin . When the FB pin drops below 0.9V, switching frequency is reduced, the SYNC (See Datasheet)", 13 PGFB (in) "The PGFB pin is the positive input to a comparator whose negative input is set at VPGFB. When PGFB is taken above VPGFB, current (ICSS) is sourced into the CT pin starting the PG delay period. When the voltage on the PGFB (See Datasheet)", 14 SYNC (in) "The SYNC pin is used to synchronize the internal oscillator to an external signal. It is directly logic compatible and can be driven with any signal between 30% and 70% duty cycle. The synchronizing range is equal to maximum (See Datasheet)", 15 ~{SHDN} (in) "The S\H\D\N\ pin is used to turn off the regulator and to reduce input current to less than 1uA. The S\H\D\N\ pin requires a voltage above 1.3V with a typical source current of 5uA to take the IC out of the shutdown state.", 16 PG (hiz) "The PG pin is functional only when the S\H\D\N\ pin is above its threshold, and is active low when the internal clamp on the CT pin is below its clamp level and high impedance when the clamp is active. The PG pin has a (See Datasheet)", 17 EP (power) "The GND pin connection acts as the reference for the regulated output, so load regulation will suffer if the “ground?end of the load is not at the same voltage as the GND pin of the IC. This condition will occur w(See Datasheet)"
part B pins: 1 NC "No Connection.", 3 NC "No Connection.", 5 NC "No Connection."

## LT1976HFE#TRPBF
designator U?
High Voltage 1.5 A, 200 kHz Step-Down Switching Regulator with 100 uA Quiescent Current, 16-pin SOP (FE-16-EPV-BC), -40 to 140 degC, Pb-Free, Tape and Reel; Manufacturer: Linear Technology; PartNumber: LT1976HFE#TRPBF; Number of Outputs: 1; PackageReference: FE-16; PackageDescription: 16-Pin Plastic TSSOP, Body 5 x 4.4 mm, Pitch 0.65 mm; Supplier 1: Digi-Key; Supplier Part Number 1: LT1976HFE#TRPBF-ND; RoHS: TRUE
footprint LT-FE-16-EPV-BC_N (SOP, 16-Leads, Body 5.1x4.5mm, Pitch 0.65mm, Thermal Pad 3.58x2.94mm, IPC Medium Density)
footprint LT-FE-16-EPV-BC_L (SOP, 16-Leads, Body 5.1x4.5mm, Pitch 0.65mm, Thermal Pad 3.58x2.94mm, IPC High Density)
footprint LT-FE-16-EPV-BC_M (SOP, 16-Leads, Body 5.1x4.5mm, Pitch 0.65mm, Thermal Pad 3.58x2.94mm, IPC Low Density)
part A pins: 2 SW (power) "The SW pin is the emitter of the on-chip power NPN switch. This pin is driven up to the input pin voltage during switch on time. Inductor current drives the SW pin negative during switch off time. Negative voltage is clamped (See Datasheet)", 4 VIN (power) "This is the collector of the on-chip power NPN switch. VIN powers the internal control circuitry when a voltage on the BIAS pin is not present. High di/dt edges occur on this pin during switch turn on and off. Keep the path (See Datasheet)", 6 BOOST "The BOOST pin is used to provide a drive voltage, higher than the input voltage, to the internal bipolar NPN power switch. Without this added voltage, the typical switch voltage loss would be about 1.5V. The additional BOOST (See Datasheet)", 7 CT "A capacitor on the CT pin determines the amount of delay time between the PGFB pin exceeding its threshold (VPGFB) and the PG pin set to a high impedance state. When the PGFB pin rises above VPGFB, current is sourced from (See Datasheet)", 8 GND (power) "The GND pin connection acts as the reference for the regulated output, so load regulation will suffer if the “ground?end of the load is not at the same voltage as the GND pin of the IC. This condition will occur w(See Datasheet)", 9 CSS (in) "A capacitor from the CSS pin to the regulated output voltage determines the output voltage ramp rate during start-up. When the current through the CSS capacitor exceeds the CSS threshold (ICSS), the voltage ramp of the (See Datasheet)", 10 BIAS (power) "The BIAS pin is used to improve efficiency when operating at higher input voltages and light load current. Connecting this pin to the regulated output voltage forces most of the internal circuitry to draw its operating (See Datasheet)", 11 VC "The VC pin is the output of the error amplifier and the input of the peak switch current comparator. It is normally used for frequency compensation, but can also serve as a current clamp or control loop override. VC sits at (See Datasheet)", 12 FB (in) "The feedback pin is used to determine the output voltage using an external voltage divider from the output that generates 1.25V at the FB pin . When the FB pin drops below 0.9V, switching frequency is reduced, the SYNC (See Datasheet)", 13 PGFB (in) "The PGFB pin is the positive input to a comparator whose negative input is set at VPGFB. When PGFB is taken above VPGFB, current (ICSS) is sourced into the CT pin starting the PG delay period. When the voltage on the PGFB (See Datasheet)", 14 SYNC (in) "The SYNC pin is used to synchronize the internal oscillator to an external signal. It is directly logic compatible and can be driven with any signal between 30% and 70% duty cycle. The synchronizing range is equal to maximum (See Datasheet)", 15 ~{SHDN} (in) "The S\H\D\N\ pin is used to turn off the regulator and to reduce input current to less than 1uA. The S\H\D\N\ pin requires a voltage above 1.3V with a typical source current of 5uA to take the IC out of the shutdown state.", 16 PG (hiz) "The PG pin is functional only when the S\H\D\N\ pin is above its threshold, and is active low when the internal clamp on the CT pin is below its clamp level and high impedance when the clamp is active. The PG pin has a (See Datasheet)", 17 EP (power) "The GND pin connection acts as the reference for the regulated output, so load regulation will suffer if the “ground?end of the load is not at the same voltage as the GND pin of the IC. This condition will occur w(See Datasheet)"
part B pins: 1 NC "No Connection.", 3 NC "No Connection.", 5 NC "No Connection."